# EAGLE library part MOSFET-PCH-SOT23-6 (library Q-MOSFET-PCH-dual-SOT23-6)
Dual P channel MOSFETs in an SOT23-6
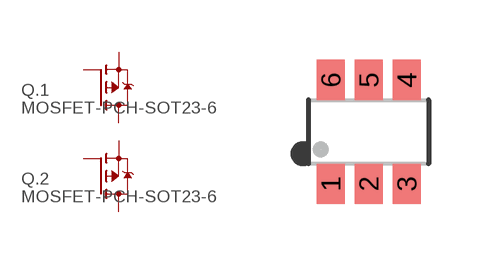
[diagram p0: symbol with the pads of SOT23-6; footprint SOT23-6]

Designator prefix Q; gates .1=P-MOSFET .2=P-MOSFET

## MOSFET-PCH-SOT23-6 (MFR: Diodes Inc; MPN: DMP2240UDM-7)  [SOT23-6]
1  .1:G  pas
2  .2:S  pas
3  .2:G  pas
4  .2:D  pas
5  .1:S  pas
6  .1:D  pas

## Footprint SOT23-6 (pad centres in mm)
SOT23-6 Small Outline Transistor, standard 6-pin package
smd 0.7 x 1: 1 -0.95,-1.3; 2 0,-1.3; 3 0.95,-1.3; 4 0.95,1.3; 5 0,1.3; 6 -0.95,1.3